# Altium footprint library Fuse_Pcb.PcbLib: 1 footprints
Each footprint in its own frame and in the unit in brackets; x right, y up, seen from the top. Pads: shape width x height; smd on the part's side, far side on the other; paste and mask are expansions set on the pad; w line width, h text height; cw(c..) or ccw(c..) is an arc to the next point about the centre after c.
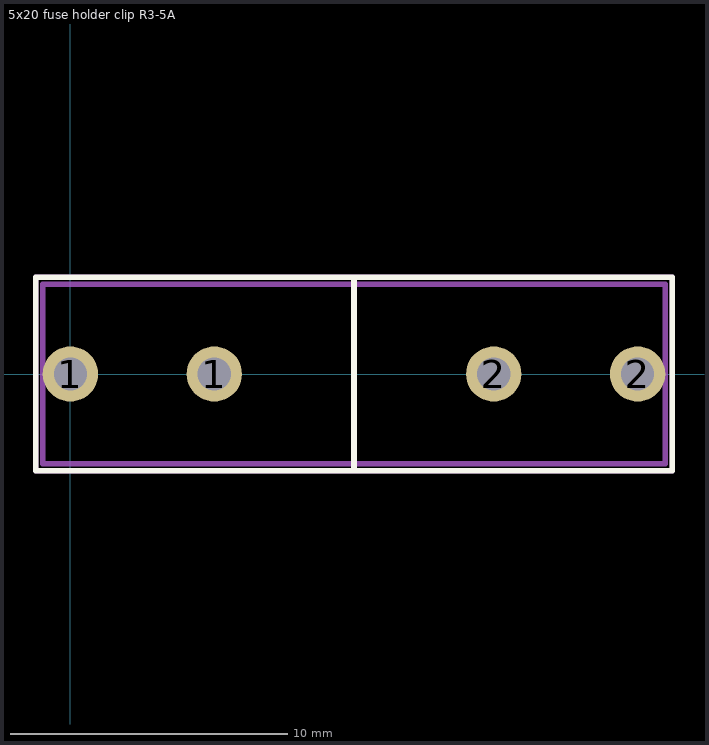
[diagram p0: the footprint, top view; thin cyan lines are the x and y axes]

## 5x20 fuse holder clip R3-5A [mm]
pads (4):
  round 2 hole 1.2 paste+0 mask+0.1: 1(0,0) 1(5.2,0) 2(15.3,0) 2(20.5,0)
Top Overlay:
  lines w0.2: 10.25,-3.5 10.25,3.5 ; -1.25,-3.5 -1.25,0 -1.25,3.5 21.75,3.5 21.75,-3.5 -1.25,-3.5
Mechanical 1:
  lines w0.2: -1,-3.25 -1,0 -1,3.25 21.5,3.25 21.5,-3.25 -1,-3.25
  text "'.designator'" at -0.5,-2.624 h2
Mechanical 15:
  lines w0.2: -1.25,-3.5 -1.25,3.5 21.75,3.5 21.75,-3.5 -1.25,-3.5
3D body "5x20 fuse holder clip with fuse.STEP": height 8.63, standoff -3.56, extent -1.439,-3.174 21.939,3.174